# Altium footprint library Osc.PcbLib: 2 footprints
Each footprint in its own frame and in the unit in brackets; x right, y up, seen from the top. Pads: shape width x height; smd on the part's side, far side on the other; paste and mask are expansions set on the pad; w line width, h text height; cw(c..) or ccw(c..) is an arc to the next point about the centre after c.
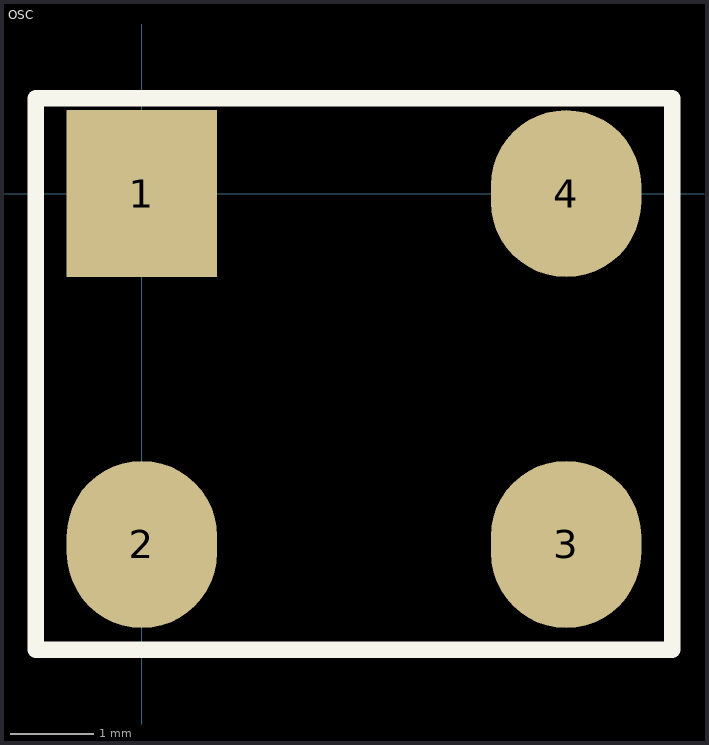
[diagram p0: the footprints below, top view; thin cyan lines are the x and y axes]

## OSC [mm]
pads (4):
  rect 1.8x2 smd: 1(0,0)
  oval 1.8x2 smd: 2(0,-4.2) 3(5.08,-4.2) 4(5.08,0)
Top Overlay:
  lines w0.2: -1.27,-5.461 -1.27,1.143 4.191,1.143 6.35,1.143 6.35,-5.461 -1.27,-5.461

## PCBComponent_1 [mm]